# Altium footprint library STM32F103C8T6_Coreboard.PcbLib: 13 footprints
Each footprint in its own frame and in the unit in brackets; x right, y up, seen from the top. Pads: shape width x height; smd on the part's side, far side on the other; paste and mask are expansions set on the pad; w line width, h text height; cw(c..) or ccw(c..) is an arc to the next point about the centre after c.
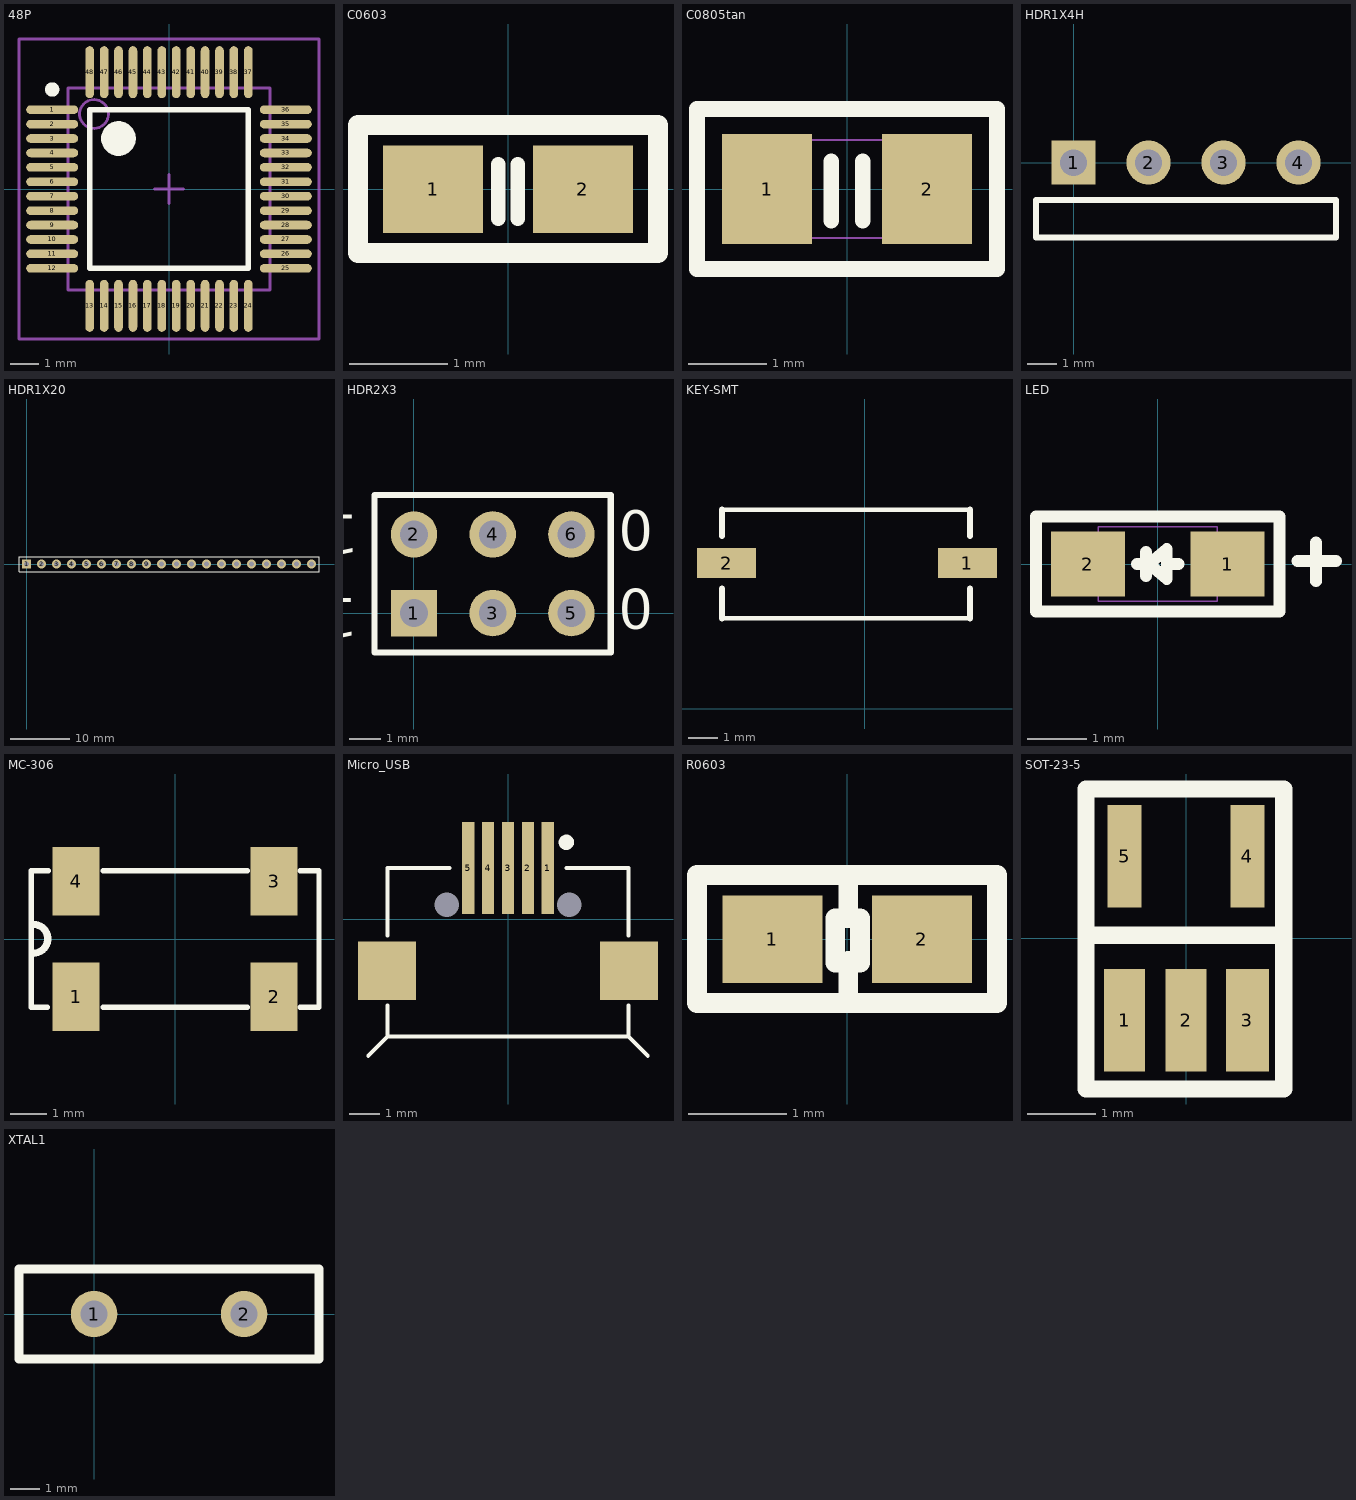
[diagram p0: the footprints below, top view; thin cyan lines are the x and y axes]

## 48P [mm]
height 4.32
pads (48):
  oval 1.8x0.3 smd: 1(-4.05,2.75) 2(-4.05,2.25) 3(-4.05,1.75) 4(-4.05,1.25) 5(-4.05,0.75) 6(-4.05,0.25) 7(-4.05,-0.25) 8(-4.05,-0.75) 9(-4.05,-1.25) 10(-4.05,-1.75) 11(-4.05,-2.25) 12(-4.05,-2.75) 25(4.05,-2.75) 26(4.05,-2.25) 27(4.05,-1.75) 28(4.05,-1.25) 29(4.05,-0.75) 30(4.05,-0.25) 31(4.05,0.25) 32(4.05,0.75) 33(4.05,1.25) 34(4.05,1.75) 35(4.05,2.25) 36(4.05,2.75)
  oval 0.3x1.8 smd: 13(-2.75,-4.05) 14(-2.25,-4.05) 15(-1.75,-4.05) 16(-1.25,-4.05) 17(-0.75,-4.05) 18(-0.25,-4.05) 19(0.25,-4.05) 20(0.75,-4.05) 21(1.25,-4.05) 22(1.75,-4.05) 23(2.25,-4.05) 24(2.75,-4.05) 37(2.75,4.05) 38(2.25,4.05) 39(1.75,4.05) 40(1.25,4.05) 41(0.75,4.05) 42(0.25,4.05) 43(-0.25,4.05) 44(-0.75,4.05) 45(-1.25,4.05) 46(-1.75,4.05) 47(-2.25,4.05) 48(-2.75,4.05)
Top Overlay:
  circle w0.6: c-1.75,1.75 r0.3
  circle w0.25: c-4.05,3.45 r0.125
  lines w0.2: -2.75,-2.75 2.75,-2.75 2.75,2.75 -2.75,2.75 -2.75,-2.75
Mechanical 13:
  circle w0.1: c-2.6,2.6 r0.5
  lines w0.1: -3.5,-3.5 3.5,-3.5 3.5,3.5 -3.5,3.5 -3.5,-3.5
Mechanical 15:
  lines w0.1: -0.5,0 0.5,0 ; 0,-0.5 0,0.5 ; -5.2,-5.2 5.2,-5.2 5.2,5.2 -5.2,5.2 -5.2,-5.2
3D body "STM32f103c8t6.STEP": height 1.6, standoff 0, extent -4.5,-4.5 4.5,4.5

## C0603 [mil]
height 170.08
pads (2):
  rect 40x35 smd: 1(-29.92,0) 2(29.92,0)
Top Overlay:
  lines w5.91: -3.94,-11.81 -3.94,9.84 ; 3.94,-11.81 3.94,9.84
  lines w7.87: -60,-25.59 60,-25.59 60,25.59 -60,25.59 -60,-25.59
3D body "C 0603.STEP": height 31.89, standoff -0.39, extent -31.5,-16.14 31.5,16.14

## C0805tan [mil]
height 104.33
pads (2):
  rect 45x55 smd: 1(-40,0) 2(40,0)
Top Overlay:
  lines w7.87: -7.87,-15.75 -7.87,13.78 ; 7.87,-15.75 7.87,13.78 ; -75,-40 -75,40 75,40 75,-40 -75,-40
Mechanical 8:
  lines w1: -39.37,-24.61 -39.37,24.61 39.37,24.61 39.37,-24.61 -39.37,-24.61
3D body "R0805.STEP": height 21.65, standoff 0, extent -40.36,-25.8 38.37,23.81

## HDR1X4H [mm] "Connector; Header; 4 Position; Right Angle"
pads (4):
  rect 1.5x1.5 hole 0.9: 1(0,0)
  round 1.5 hole 0.9: 2(2.54,0) 3(5.08,0) 4(7.62,0)
Top Overlay:
  lines w0.2: -1.27,-2.54 8.89,-2.54 8.89,-1.27 -1.27,-1.27 -1.27,-2.54
3D body "HDR2.54-1P_H.STEP": height 4.85, standoff -3, extent -1.27,-7.77 1.27,1.27
3D body "HDR2.54-1P_H.STEP": height 4.85, standoff -3, extent 1.27,-7.77 3.81,1.27
3D body "HDR2.54-1P_H.STEP": height 4.85, standoff -3, extent 3.81,-7.77 6.35,1.27
3D body "HDR2.54-1P_H.STEP": height 4.85, standoff -3, extent 6.35,-7.77 8.89,1.27

## HDR1X20 [mm] "Connector; Header; 20 Position"
height 4.32
pads (20):
  rect 1.5x1.5 hole 0.9: 1(0,0)
  round 1.5 hole 0.9: 2(2.54,0) 3(5.08,0) 4(7.62,0) 5(10.16,0) 6(12.7,0) 7(15.24,0) 8(17.78,0) 9(20.32,0) 10(22.86,0) 11(25.4,0) 12(27.94,0) 13(30.48,0) 14(33.02,0) 15(35.56,0) 16(38.1,0) 17(40.64,0) 18(43.18,0) 19(45.72,0) 20(48.26,0)
Top Overlay:
  lines w0.2: -1.27,-1.27 49.53,-1.27 49.53,1.27 0.635,1.27 -1.27,1.27 -1.27,-1.27
3D body "HDR2.54-1P.STEP": height 3, standoff -8.5, extent 41.91,-1.27 44.45,1.27
3D body "HDR2.54-1P.STEP": height 3, standoff -8.5, extent 39.37,-1.27 41.91,1.27
3D body "HDR2.54-1P.STEP": height 3, standoff -8.5, extent 46.99,-1.27 49.53,1.27
3D body "HDR2.54-1P.STEP": height 3, standoff -8.5, extent 44.45,-1.27 46.99,1.27
3D body "HDR2.54-1P.STEP": height 3, standoff -8.5, extent 31.75,-1.27 34.29,1.27
3D body "HDR2.54-1P.STEP": height 3, standoff -8.5, extent 29.21,-1.27 31.75,1.27
3D body "HDR2.54-1P.STEP": height 3, standoff -8.5, extent 36.83,-1.27 39.37,1.27
3D body "HDR2.54-1P.STEP": height 3, standoff -8.5, extent 34.29,-1.27 36.83,1.27
3D body "HDR2.54-1P.STEP": height 3, standoff -8.5, extent 21.59,-1.27 24.13,1.27
3D body "HDR2.54-1P.STEP": height 3, standoff -8.5, extent 19.05,-1.27 21.59,1.27
3D body "HDR2.54-1P.STEP": height 3, standoff -8.5, extent 26.67,-1.27 29.21,1.27
3D body "HDR2.54-1P.STEP": height 3, standoff -8.5, extent 24.13,-1.27 26.67,1.27
3D body "HDR2.54-1P.STEP": height 3, standoff -8.5, extent 11.43,-1.27 13.97,1.27
3D body "HDR2.54-1P.STEP": height 3, standoff -8.5, extent 8.89,-1.27 11.43,1.27
3D body "HDR2.54-1P.STEP": height 3, standoff -8.5, extent 16.51,-1.27 19.05,1.27
3D body "HDR2.54-1P.STEP": height 3, standoff -8.5, extent 13.97,-1.27 16.51,1.27
3D body "HDR2.54-1P.STEP": height 3, standoff -8.5, extent 3.81,-1.27 6.35,1.27
3D body "HDR2.54-1P.STEP": height 3, standoff -8.5, extent 6.35,-1.27 8.89,1.27
3D body "HDR2.54-1P.STEP": height 3, standoff -8.5, extent -1.27,-1.27 1.27,1.27
3D body "HDR2.54-1P.STEP": height 3, standoff -8.5, extent 1.27,-1.27 3.81,1.27

## HDR2X3 [mm] "Connector; Header; 3x2 Position"
height 4.32
pads (6):
  rect 1.5x1.5 hole 0.9: 1(0,0)
  round 1.5 hole 0.9: 2(0,2.54) 3(2.54,0) 4(2.54,2.54) 5(5.08,0) 6(5.08,2.54)
Top Overlay:
  lines w0.2: 1.482,-1.27 6.35,-1.27 ; 6.35,-1.27 6.35,3.81 -1.27,3.81 -1.27,-1.27 6.35,-1.27
  text "0" at 6.604,2.032 h1.27
  text "0" at 6.604,-0.508 h1.27
  text "1" at -1.778,3.175 h1.27
  text "1" at -1.807,0.486 h1.27
3D body "HDR2.54-1x2P.STEP": height 8.5, standoff -3, extent 1.27,-1.27 3.81,3.81
3D body "HDR2.54-1x2P.STEP": height 8.5, standoff -3, extent -1.27,-1.27 1.27,3.81
3D body "HDR2.54-1x2P.STEP": height 8.5, standoff -3, extent 3.81,-1.27 6.35,3.81

## KEY-SMT [mm]
height 4.32
pads (2):
  rect 2x1 smd: 1(3.47,4.922) 2(-4.67,4.922)
Top Overlay:
  lines w0.152: -4.826,3.048 3.556,3.048 ; -4.826,6.731 3.556,6.731
  lines w0.2: -4.826,3.048 -4.826,4.064 ; -4.826,5.842 -4.826,6.731 ; 3.556,3.048 3.556,4.064 ; 3.556,5.842 3.556,6.731
3D body "KEY_SOT_P2.STEP": height 2.49, standoff 0.1, extent -4.67,3.122 3.47,6.722

## LED [mil]
height 170.08
pads (2):
  rect 49x43 smd: 1(46.26,0) 2(-46.26,0)
Top Overlay:
  lines w7.87: -13.78,0 -5.91,0 ; -7.87,-7.87 -7.87,7.87 ; 5.91,0 13.78,0 ; 92.52,1.97 118.11,1.97 ; 104.75,-11.44 104.75,14.15 ; -5.91,0 5.91,9.84 5.91,-9.84 -5.91,0 ; -80.71,-31.5 80.71,-31.5 80.71,31.5 -80.71,31.5 -80.71,-31.5
Mechanical 8:
  lines w1: -39.37,-24.61 39.37,-24.61 39.37,24.61 -39.37,24.61 -39.37,-24.61
3D body "LED 0603-G.STEP": height 18.36, standoff -0.16, extent -37.41,-15.79 25.59,15.79

## MC-306 [mm]
height 1.6
pads (4):
  rect 1.3x1.9 smd: 1(-2.75,-1.6) 2(2.75,-1.6) 3(2.75,1.6) 4(-2.75,1.6)
Top Overlay:
  lines w0.152: -3.556,-1.9 -4,-1.9 -4,1.9 -3.531,1.9 ; -2,-1.9 2,-1.9 ; -2,1.9 2,1.9 ; 3.48,-1.9 4,-1.9 4,1.9 3.48,1.9
  lines w0.2: -3.937,-0.394 ccw(c-3.937,0.006) -3.937,0.406
3D body "OSC MC-306-4.STEP": height 2.56, standoff 0, extent -4,-1.63 4,1.63

## Micro_USB [mm]
height 4.32
pads (9):
  rect 0.4x3 smd: 1(1.3,1.679) 2(0.65,1.679) 3(0,1.679) 4(-0.65,1.679) 5(-1.3,1.679)
  round 0 hole 0.8 unplated: MH1(2,0.471) MH2(-2,0.471)
  rect 1.9x1.9 smd: ""(-3.95,-1.679) ""(3.95,-1.679)
Top Overlay:
  circle w0.25: c1.905,2.519 r0.125
  lines w0.127: -4.567,-4.459 -3.937,-3.829 -3.937,-2.813 ; -3.937,-0.527 -3.937,1.679 ; -3.9,-3.829 3.9,-3.829 ; -3.9,1.679 -1.905,1.679 ; 1.905,1.679 3.9,1.679 ; 3.937,-2.813 3.937,-3.829 4.567,-4.459 ; 3.937,-0.527 3.937,1.679
3D body "473460001.stp": height 2.67, standoff -0.27, extent -3.99,-4.177 3.99,1.253

## R0603 [mil]
height 170.08
pads (2):
  rect 40x35 smd: 1(-29.92,0) 2(29.92,0)
Top Overlay:
  lines w7.87: 0.39,-21.65 0.39,-8.66 ; 0.39,9.45 0.39,21.65 ; -60.07,-25.59 -60.07,25.59 59.93,25.59 59.93,-25.59 -60.07,-25.59 ; -4.72,-9.45 5.12,-9.45 5.12,8.27 -4.72,8.27 -4.72,-9.45
3D body "R0603.STEP": height 17.72, standoff 0, extent -32.49,-15.74 30.5,15.75

## SOT-23-5 [mm]
height 4.32
pads (5):
  rect 0.6x1.5 smd: 1(-0.9,-1.2) 2(0,-1.2)
  rect 0.63x1.5 smd: 3(0.9,-1.2)
  rect 0.5x1.5 smd: 4(0.9,1.2) 5(-0.9,1.2)
Top Overlay:
  lines w0.254: -1.466,0.041 1.43,0.041 ; -1.466,-2.21 1.43,-2.21 1.43,2.184 -1.466,2.184 -1.466,-2.21
3D body "User Library-SOT23-5.STEP": height 1.09, standoff -0.01, extent -1.501,-1.378 1.399,1.422

## XTAL1 [mil]
height 170.08
pads (2):
  round 62 hole 35.43: 1(0,0) 2(200,0)
Top Overlay:
  lines w12: -100,-60 -100,60 300,60 300,-60 -100,-60
3D body "SW3dPS-HP49US.STEP": height 137.8, standoff -157.48, extent -124,-91 322.85,92.07